# EAGLE library part TPA6130A2 (library GTA04b7)
TPA6130A2 138-mW DIRECTPATHTM STEREO HEADPHONE AMPLIFIER WITH I2C VOLUME CONTROL
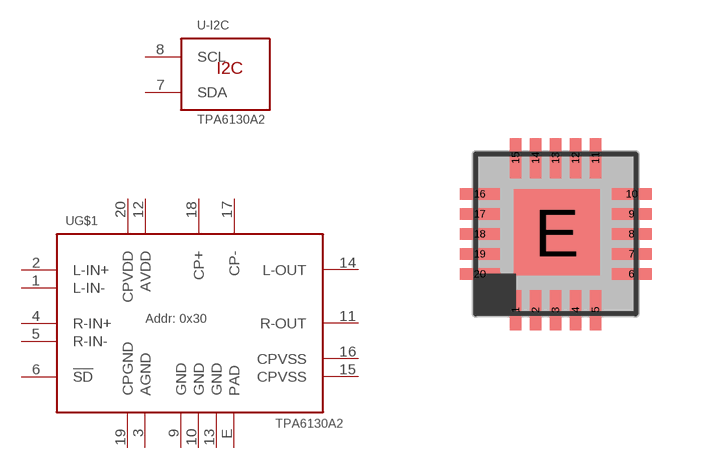
[diagram p46: symbol with the pads of S-PWQFN-N20-0.5; footprint S-PWQFN-N20-0.5]

Designator prefix -; gates -I2C=IF-I2C G$1=TPA6130A2

## TPA6130A2RTJ  [S-PWQFN-N20-0.5]
1  G$1:L-IN-  pas
2  G$1:L-IN+  pas
3  G$1:AGND  pwr
4  G$1:R-IN+  pas
5  G$1:R-IN-  pas
6  G$1:!SD  in
7  -I2C:SDA
8  -I2C:SCL
9  G$1:GND  pwr
10  G$1:GND  pwr
11  G$1:R-OUT  pas
12  G$1:AVDD  pwr
13  G$1:GND  pwr
14  G$1:L-OUT  pas
15  G$1:CPVSS  pwr
16  G$1:CPVSS  pwr
17  G$1:CP-  pas
18  G$1:CP+  pas
19  G$1:CPGND  pwr
20  G$1:CPVDD  pwr
E  G$1:PAD  pwr

## Footprint S-PWQFN-N20-0.5 (pad centres in mm)
TI RTJ (S-PWQFN-N20)
smd 0.28 x 1: 1 -1,-1.9; 2 -0.5,-1.9; 3 0,-1.9; 4 0.5,-1.9; 5 1,-1.9; 11 1,1.9; 12 0.5,1.9; 13 0,1.9; 14 -0.5,1.9; 15 -1,1.9
smd 1 x 0.28: 6 1.9,-1; 7 1.9,-0.5; 8 1.9,0; 9 1.9,0.5; 10 1.9,1; 16 -1.9,1; 17 -1.9,0.5; 18 -1.9,0; 19 -1.9,-0.5; 20 -1.9,-1
smd 2.15 x 2.15: E 0.03,0.04